# Altium footprint library MaUWB.PcbLib: 30 footprints (part 2 of 2)
Each footprint in its own frame and in the unit in brackets; x right, y up, seen from the top. Pads: shape width x height; smd on the part's side, far side on the other; paste and mask are expansions set on the pad; w line width, h text height; cw(c..) or ccw(c..) is an arc to the next point about the centre after c.
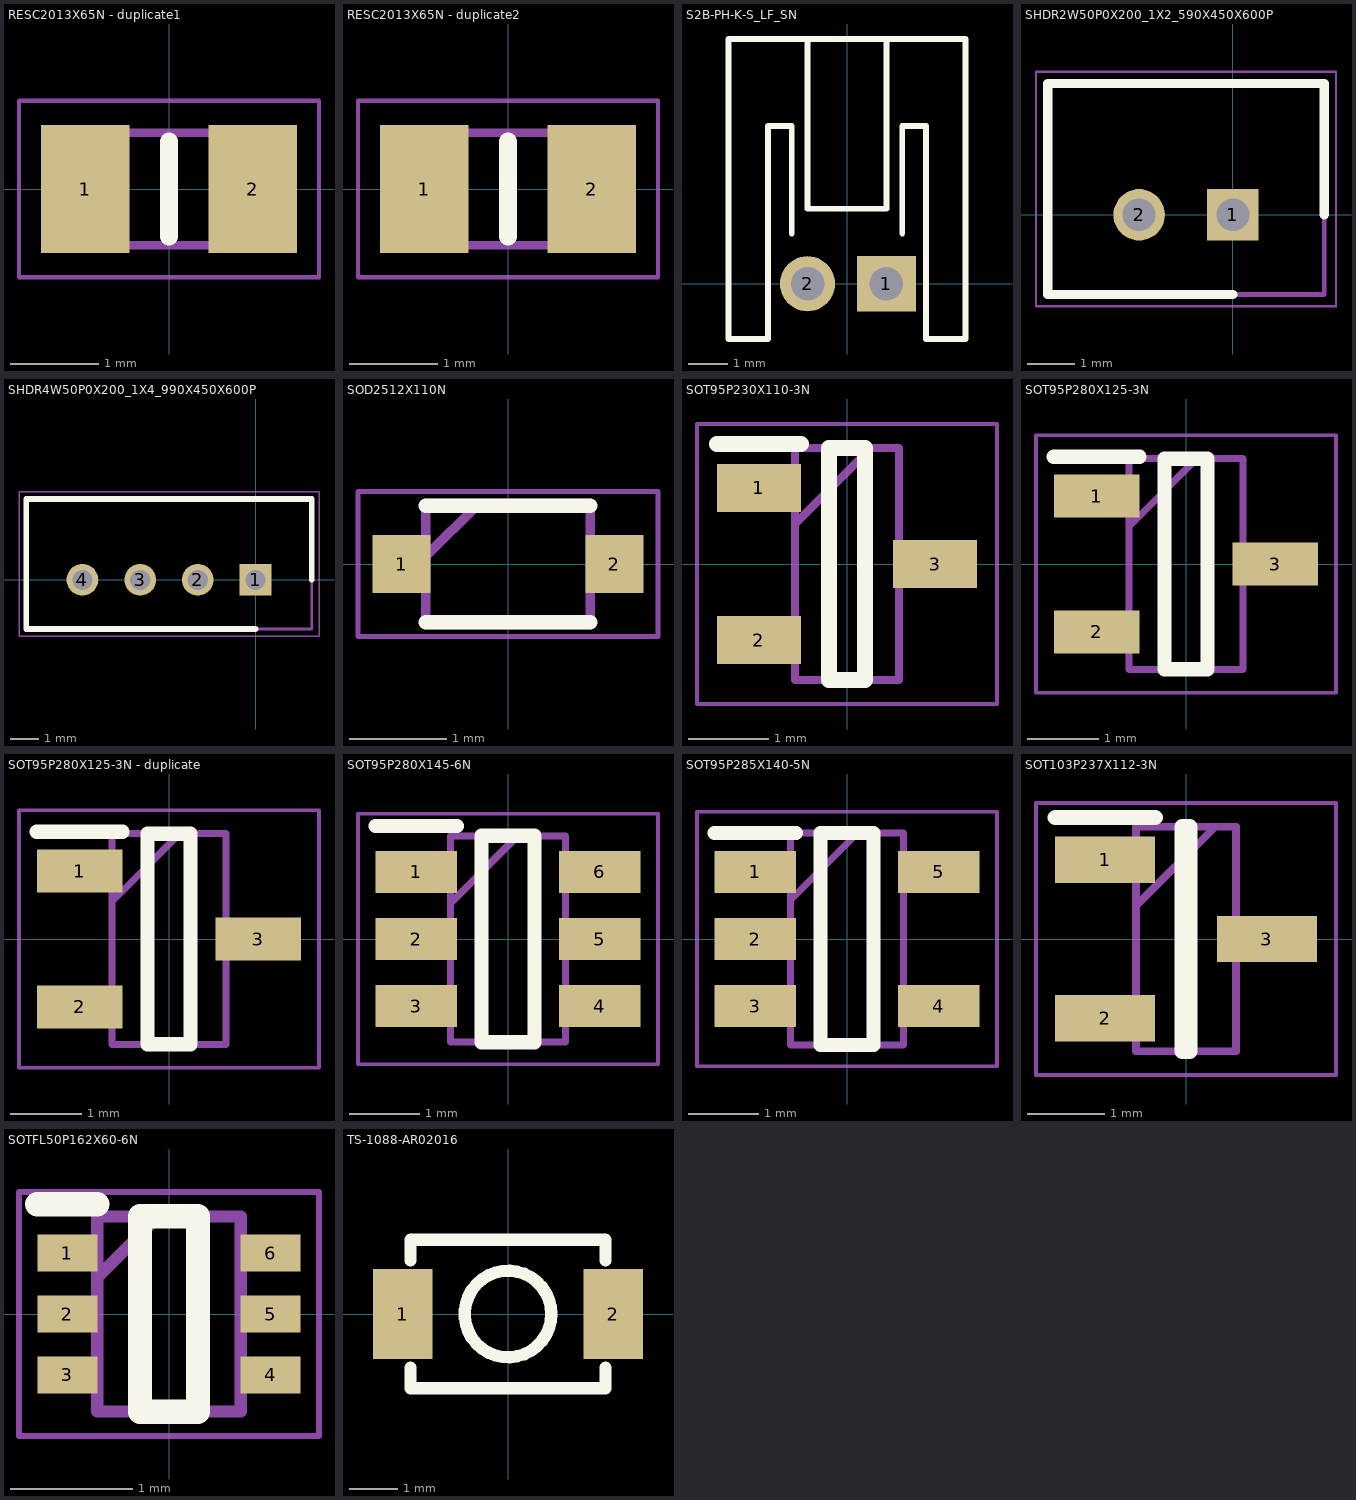
[diagram p1: the footprints below, top view; thin cyan lines are the x and y axes]

## RESC2013X65N - duplicate1 [mm]
pads (2):
  rect 1x1.45 smd: 1(-0.95,0) 2(0.95,0)
Top Overlay:
  lines w0.2: 0,-0.538 0,0.538
Mechanical 13:
  lines w0.1: -1,-0.638 1,-0.638 1,0.638 -1,0.638 -1,-0.638
Mechanical 15:
  lines w0.05: -1.7,-1 1.7,-1 1.7,1 -1.7,1 -1.7,-1
3D body "0805W8F4701T5E.stp": height 0.65, standoff 0, extent -1,-0.637 1,0.637

## RESC2013X65N - duplicate2 [mm]
pads (2):
  rect 1x1.45 smd: 1(-0.95,0) 2(0.95,0)
Top Overlay:
  lines w0.2: 0,-0.538 0,0.538
Mechanical 13:
  lines w0.1: -1,-0.638 1,-0.638 1,0.638 -1,0.638 -1,-0.638
Mechanical 15:
  lines w0.05: -1.7,-1 1.7,-1 1.7,1 -1.7,1 -1.7,-1
3D body "0805W8F4701T5E.stp": height 0.65, standoff 0, extent -1,-0.637 1,0.637

## S2B-PH-K-S_LF_SN [mm]
pads (2):
  rect 1.5x1.4 hole 0.85: 1(1,0)
  rrect100% 1.4x1.4 hole 0.85: 2(-1,0)
Top Overlay:
  lines w0.15: -1.4,1.27 -1.4,4 -2,4 -2,-1.4 -3,-1.4 -3,6.2 3,6.2 ; -1,6.2 -1,1.9 1,1.9 1,6.1 ; 1.4,1.27 1.4,4 2,4 2,-1.4 3,-1.4 3,6.159
3D body "S2B-PH-K-S_LF_SN.step": height 5.05, standoff -3.5, extent -3.001,-1.45 3,6.25

## SHDR2W50P0X200_1X2_590X450X600P [mm]
pads (2):
  rect 1.1x1.1 hole 0.7: 1(0,0)
  round 1.1 hole 0.7: 2(-2,0)
Top Overlay:
  lines w0.2: 0,-1.7 -3.95,-1.7 -3.95,2.8 1.95,2.8 1.95,0
Mechanical 13:
  lines w0.1: -3.95,-1.7 -3.95,2.8 1.95,2.8 1.95,-1.7 -3.95,-1.7
Mechanical 15:
  lines w0.05: -4.2,-1.95 -4.2,3.05 2.2,3.05 2.2,-1.95 -4.2,-1.95
3D body "B2B-PH-K-S_LF__SN_.stp": height 6, standoff -3.4, extent -3.95,-2.25 1.95,2.25

## SHDR4W50P0X200_1X4_990X450X600P [mm]
pads (4):
  rect 1.1x1.1 hole 0.7: 1(0,0)
  round 1.1 hole 0.7: 2(-2,0) 3(-4,0) 4(-6,0)
Top Overlay:
  lines w0.2: 0,-1.7 -7.95,-1.7 -7.95,2.8 1.95,2.8 1.95,0
Mechanical 13:
  lines w0.1: -7.95,-1.7 -7.95,2.8 1.95,2.8 1.95,-1.7 -7.95,-1.7
Mechanical 15:
  lines w0.05: -8.2,-1.95 -8.2,3.05 2.2,3.05 2.2,-1.95 -8.2,-1.95
3D body "B4B-PH-K-S.STEP": height 6, standoff -3.4, extent -7.998,-1.651 1.902,2.849

## SOD2512X110N [mm]
pads (2):
  rect 0.6x0.6 smd: 1(-1.1,0) 2(1.1,0)
Top Overlay:
  lines w0.15: -0.85,-0.6 0.85,-0.6 ; -0.85,0.6 0.85,0.6
Mechanical 13:
  lines w0.1: -0.85,0.075 -0.3,0.625 ; -0.85,-0.625 0.85,-0.625 0.85,0.625 -0.85,0.625 -0.85,-0.625
Mechanical 15:
  lines w0.05: -1.55,-0.75 1.55,-0.75 1.55,0.75 -1.55,0.75 -1.55,-0.75
3D body "PESD5V0S1BA_115.step": height 1.1, standoff 0, extent -1.25,-0.65 1.25,0.65

## SOT95P230X110-3N [mm]
pads (3):
  rect 1.05x0.6 smd: 1(-1.1,0.95) 2(-1.1,-0.95) 3(1.1,0)
Top Overlay:
  lines w0.2: -1.625,1.5 -0.575,1.5 ; -0.225,-1.45 -0.225,1.45 0.225,1.45 0.225,-1.45 -0.225,-1.45
Mechanical 13:
  lines w0.1: -0.65,0.5 0.3,1.45 ; -0.65,-1.45 -0.65,1.45 0.65,1.45 0.65,-1.45 -0.65,-1.45
Mechanical 15:
  lines w0.05: -1.875,-1.75 -1.875,1.75 1.875,1.75 1.875,-1.75 -1.875,-1.75
3D body "2N7002,215.stp": height 0.95, standoff 0, extent -1.201,-1.448 1.199,1.452

## SOT95P280X125-3N [mm]
pads (3):
  rect 1.2x0.6 smd: 1(-1.25,0.95) 2(-1.25,-0.95) 3(1.25,0)
Top Overlay:
  lines w0.2: -1.85,1.5 -0.65,1.5 ; -0.3,-1.475 -0.3,1.475 0.3,1.475 0.3,-1.475 -0.3,-1.475
Mechanical 13:
  lines w0.1: -0.8,0.525 0.15,1.475 ; -0.8,-1.475 -0.8,1.475 0.8,1.475 0.8,-1.475 -0.8,-1.475
Mechanical 15:
  lines w0.05: -2.1,-1.8 -2.1,1.8 2.1,1.8 2.1,-1.8 -2.1,-1.8
3D body "AO3401A.stp": height 1.25, standoff 0, extent -1.4,-1.475 1.4,1.475

## SOT95P280X125-3N - duplicate [mm]
pads (3):
  rect 1.2x0.6 smd: 1(-1.25,0.95) 2(-1.25,-0.95) 3(1.25,0)
Top Overlay:
  lines w0.2: -1.85,1.5 -0.65,1.5 ; -0.3,-1.475 -0.3,1.475 0.3,1.475 0.3,-1.475 -0.3,-1.475
Mechanical 13:
  lines w0.1: -0.8,0.525 0.15,1.475 ; -0.8,-1.475 -0.8,1.475 0.8,1.475 0.8,-1.475 -0.8,-1.475
Mechanical 15:
  lines w0.05: -2.1,-1.8 -2.1,1.8 2.1,1.8 2.1,-1.8 -2.1,-1.8
3D body "AO3401A.stp": height 1.25, standoff 0, extent -1.4,-1.475 1.4,1.475

## SOT95P280X145-6N [mm]
pads (6):
  rect 1.15x0.6 smd: 1(-1.3,0.95) 2(-1.3,0) 3(-1.3,-0.95) 4(1.3,-0.95) 5(1.3,0) 6(1.3,0.95)
Top Overlay:
  lines w0.2: -1.875,1.6 -0.725,1.6 ; -0.375,-1.462 -0.375,1.462 0.375,1.462 0.375,-1.462 -0.375,-1.462
Mechanical 13:
  lines w0.1: -0.812,0.512 0.138,1.462 ; -0.812,-1.462 -0.812,1.462 0.812,1.462 0.812,-1.462 -0.812,-1.462
Mechanical 15:
  lines w0.05: -2.125,-1.775 -2.125,1.775 2.125,1.775 2.125,-1.775 -2.125,-1.775
3D body "ESDA6V1BC6.stp": height 1.45, standoff 0, extent -1.4,-1.462 1.4,1.462

## SOT95P285X140-5N [mm]
pads (5):
  rect 1.15x0.6 smd: 1(-1.3,0.95) 2(-1.3,0) 3(-1.3,-0.95) 4(1.3,-0.95) 5(1.3,0.95)
Top Overlay:
  lines w0.2: -1.875,1.5 -0.725,1.5 ; -0.375,-1.5 0.375,-1.5 0.375,1.5 -0.375,1.5 -0.375,-1.5
Mechanical 13:
  lines w0.1: -0.8,0.55 0.15,1.5 ; -0.8,-1.5 0.8,-1.5 0.8,1.5 -0.8,1.5 -0.8,-1.5
Mechanical 15:
  lines w0.05: -2.125,-1.8 2.125,-1.8 2.125,1.8 -2.125,1.8 -2.125,-1.8
3D body "AP2112K-3.3TRG1.stp": height 1.4, standoff 0, extent -1.425,-1.5 1.425,1.5

## SOT103P237X112-3N [mm]
pads (3):
  rect 1.3x0.6 smd: 1(-1.05,1.03) 2(-1.05,-1.03) 3(1.05,0)
Top Overlay:
  lines w0.2: -1.7,1.58 -0.4,1.58 ; -0.05,-1.46 -0.05,1.46 0.05,1.46 0.05,-1.46 -0.05,-1.46
Mechanical 13:
  lines w0.1: -0.65,0.43 0.38,1.46 ; -0.65,-1.46 -0.65,1.46 0.65,1.46 0.65,-1.46 -0.65,-1.46
Mechanical 15:
  lines w0.05: -1.95,-1.77 -1.95,1.77 1.95,1.77 1.95,-1.77 -1.95,-1.77
3D body "STM1061N34WX6F.stp": height 1.12, standoff 0, extent -1.185,-1.46 1.185,1.46

## SOTFL50P162X60-6N [mm]
pads (6):
  rect 0.492x0.3 smd: 1(-0.834,0.5) 2(-0.834,0) 3(-0.834,-0.5) 4(0.834,-0.5) 5(0.834,0) 6(0.834,0.5)
Top Overlay:
  lines w0.2: -1.08,0.9 -0.588,0.9 ; -0.238,-0.8 -0.238,0.8 0.238,0.8 0.238,-0.8 -0.238,-0.8
Mechanical 13:
  lines w0.1: -0.588,0.3 -0.088,0.8 ; -0.588,-0.8 -0.588,0.8 0.588,0.8 0.588,-0.8 -0.588,-0.8
Mechanical 15:
  lines w0.05: -1.23,-1 -1.23,1 1.23,1 1.23,-1 -1.23,-1
3D body "DT1446-04V-7.stp": height 0.6, standoff 0, extent -0.813,-0.8 0.813,0.8

## TS-1088-AR02016 [mm]
pads (2):
  rect 1.23x1.86 smd: 1(-2.185,0) 2(2.185,0)
Top Overlay:
  circle w0.254: c0,0 r0.9
  lines w0.254: -2.026,-1.11 -2.026,-1.541 2.026,-1.541 2.026,-1.11 ; -2.026,1.11 -2.026,1.541 2.026,1.541 2.026,1.11